# Altium footprint library KSS331G LFS.PcbLib: 1 footprints
Each footprint in its own frame and in the unit in brackets; x right, y up, seen from the top. Pads: shape width x height; smd on the part's side, far side on the other; paste and mask are expansions set on the pad; w line width, h text height; cw(c..) or ccw(c..) is an arc to the next point about the centre after c.
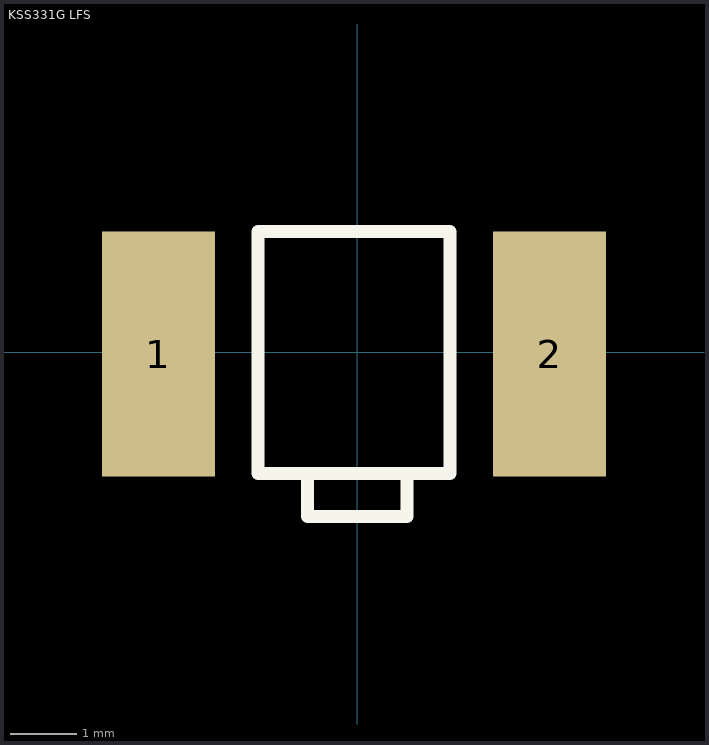
[diagram p0: the footprint, top view; thin cyan lines are the x and y axes]

## KSS331G LFS [mm] "C & K COMPONENTS - KSS331G LFS - TACT SWITCH, SIDE ACTUATED, LOW"
pads (2):
  rect 1.7x3.7 smd: 1(-3,-0.025) 2(2.9,-0.025)
Top Overlay:
  lines w0.2: -0.75,-1.825 -0.75,-2.475 0.75,-2.475 0.75,-1.825 ; -1.5,-1.825 -1.5,1.825 1.4,1.825 1.4,-1.825 -1.5,-1.825